# Altium footprint library STM32.PcbLib: 68 footprints (part 2 of 5)
Each footprint in its own frame and in the unit in brackets; x right, y up, seen from the top. Pads: shape width x height; smd on the part's side, far side on the other; paste and mask are expansions set on the pad; w line width, h text height; cw(c..) or ccw(c..) is an arc to the next point about the centre after c.
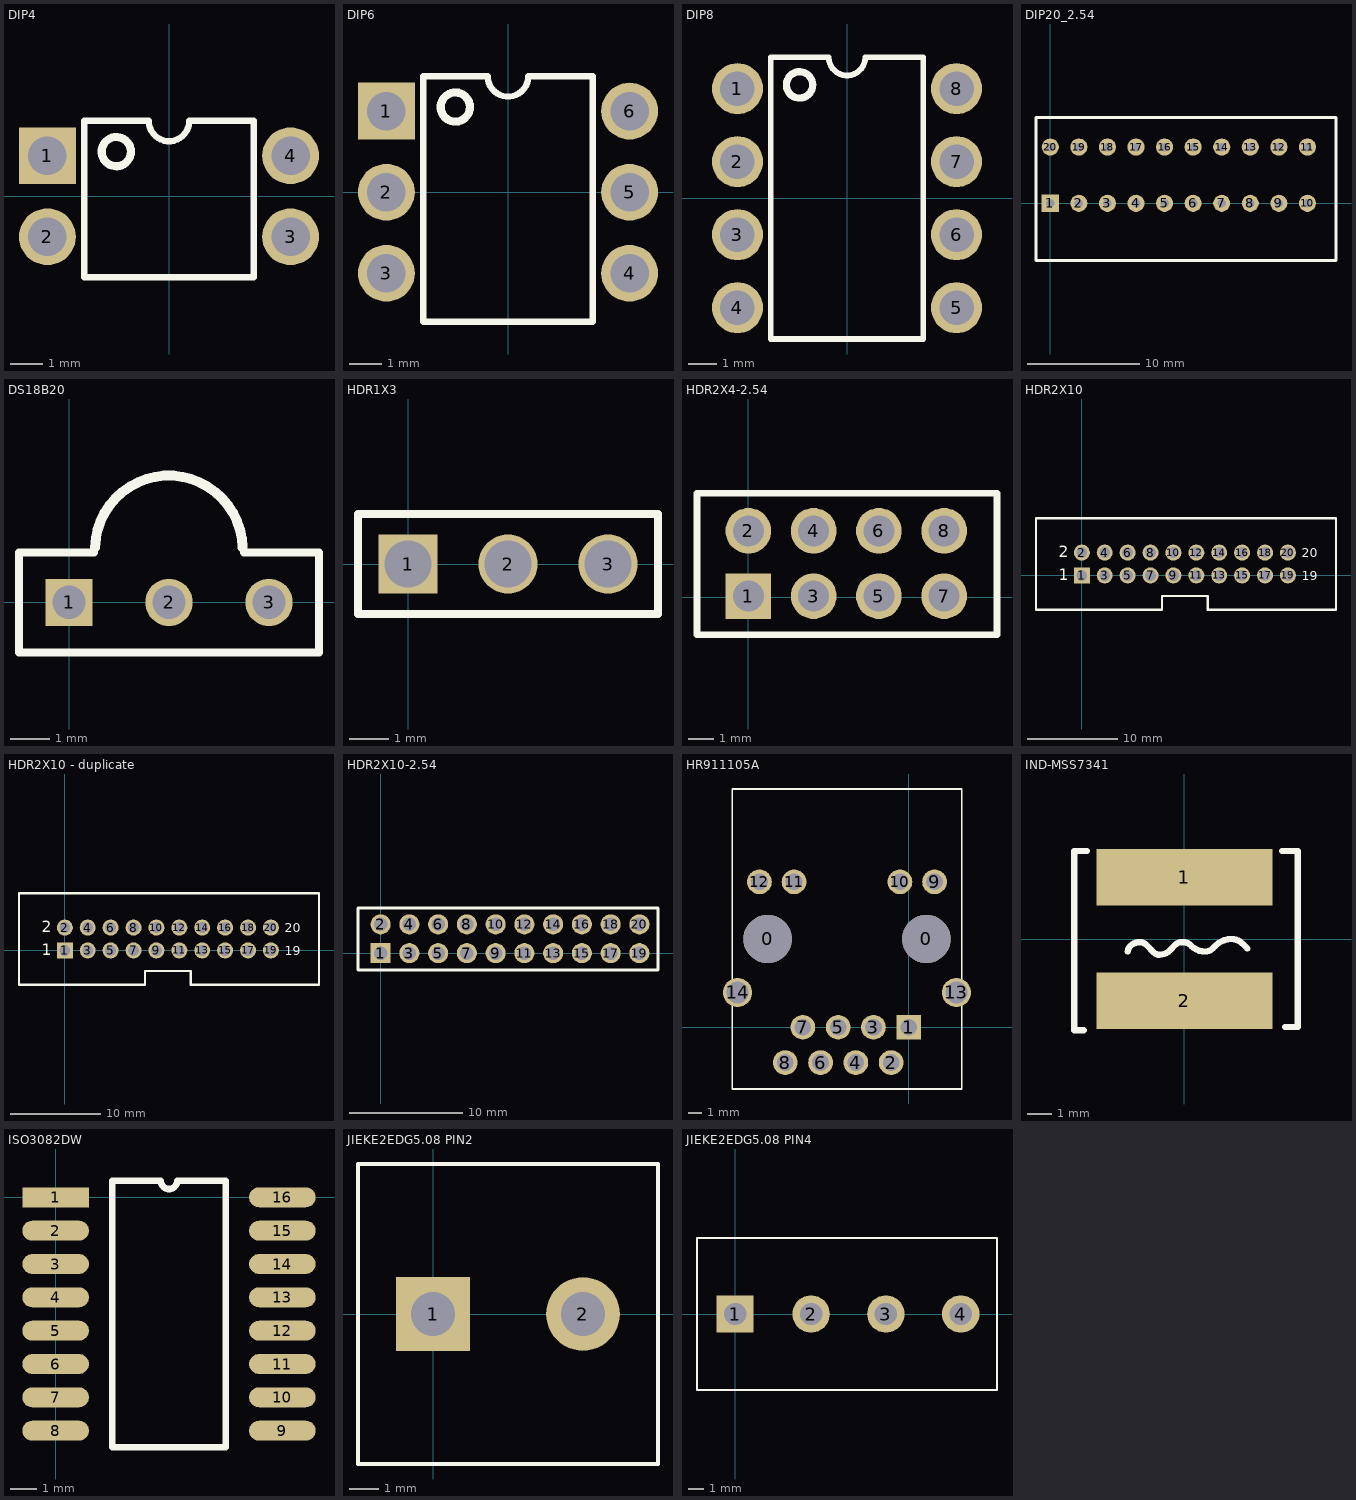
[diagram p1: the footprints below, top view; thin cyan lines are the x and y axes]

## DIP4 [mil] "DIP, 8-Leads, Row Spacing 7.62mm, Pi"
height 177.17
pads (4):
  rect 70x70 hole 47.24: 1(-150,50)
  round 70 hole 47.24: 2(-150,-50) 3(150,-50) 4(150,50)
Top Overlay:
  circle w10: c-65,55 r18.03
  lines w7.87: -104.33,-100 -104.33,92.91 -25,92.91 ccw(c0,92.91) 25,92.91 104.33,92.91 104.33,-100 -104.33,-100

## DIP6 [mil] "DIP, 8-Leads, Row Spacing 7.62mm, Pi"
height 177.17
pads (6):
  rect 70x70 hole 47.24: 1(-150,100)
  round 70 hole 47.24: 2(-150,0) 3(-150,-100) 4(150,-100) 5(150,0) 6(150,100)
Top Overlay:
  circle w10: c-65,105 r18.03
  lines w7.87: -104.33,-160 -104.33,142.91 -25,142.91 ccw(c0,142.91) 25,142.91 104.33,142.91 104.33,-160 -104.33,-160

## DIP8 [mil] "DIP, 8-Leads, Row Spacing 7.62mm, Pi"
height 177.17
pads (8):
  round 70 hole 47.24: 1(-150,150) 2(-150,50) 3(-150,-50) 4(-150,-150) 5(150,-150) 6(150,-50) 7(150,50) 8(150,150)
Top Overlay:
  circle w10: c-65,155 r18.03
  lines w7.87: -104.33,-192.91 -104.33,192.91 -25,192.91 ccw(c0,192.91) 25,192.91 104.33,192.91 104.33,-192.91 -104.33,-192.91

## DIP20 [mm]

## DIP20_2.54 [mil]
pads (20):
  rect 60x60 hole 30: 1(0,0)
  round 60 hole 30: 2(100,0) 3(200,0) 4(300,0) 5(400,0) 6(500,0) 7(600,0) 8(700,0) 9(800,0) 10(900,0) 11(900,196.85) 12(800,196.85) 13(700,196.85) 14(600,196.85) 15(500,196.85) 16(400,196.85) 17(300,196.85) 18(200,196.85) 19(100,196.85) 20(0,196.85)
Top Overlay:
  lines w10: -50,-200 -50,300 1000,300 1000,-200 -50,-200

## DS18B20 [mm] "Connector; Header; 3 Position"
pads (3):
  rect 1.2x1.2 hole 0.85: 1(0,0)
  round 1.2 hole 0.85: 2(2.54,0) 3(5.08,0)
Top Overlay:
  lines w0.2: 0.635,1.27 -1.27,1.27 -1.27,-1.27 4.42,-1.27 ; 4.445,-1.27 6.35,-1.27 6.35,1.27 4.445,1.27
  lines w0.254: 0.66,1.397 cw(c2.535,1.348) 4.409,1.398

## HDR1X3 [mm] "Connector; Header; 3 Position"
pads (3):
  rect 1.5x1.5 hole 1.2: 1(0,0)
  round 1.5 hole 1.2: 2(2.54,0) 3(5.08,0)
Top Overlay:
  lines w0.2: -1.27,-1.27 -1.27,1.27 6.35,1.27 6.35,-1.27 -1.27,-1.27

## HDR2X4-2.54 [mil]
pads (8):
  rect 70x70 hole 47.24: 1(0,2)
  round 70 hole 47.24: 2(0,102) 3(100,2) 4(100,102) 5(200,2) 6(200,102) 7(300,2) 8(300,102)
Top Overlay:
  lines w10: -78.74,-57.06 381,-57.06 381,159.48 374.02,159.48 -78.74,159.48 -78.74,21.68 -78.74,-57.06

## HDR2X10 [mil] "Connector; Header; 10x2 Position"
pads (20):
  rect 70x70 hole 47.24: 1(0,0)
  round 70 hole 47.24: 2(0,100) 3(100,0) 4(100,100) 5(200,0) 6(200,100) 7(300,0) 8(300,100) 9(400,0) 10(400,100) 11(500,0) 12(500,100) 13(600,0) 14(600,100) 15(700,0) 16(700,100) 17(800,0) 18(800,100) 19(900,0) 20(900,100)
Top Overlay:
  lines w10: -200,-150 -200,250 1110,250 1110,-150 780,-150 550,-150 550,-90 350,-90 350,-150 -200,-150
  text "20" at 960,80 h40
  text "19" at 960,-20 h40
  text "1" at -100,-20 h50
  text "2" at -100,80 h50

## HDR2X10 - duplicate [mil] "Connector; Header; 10x2 Position"
pads (20):
  rect 70x70 hole 47.24: 1(0,0)
  round 70 hole 47.24: 2(0,100) 3(100,0) 4(100,100) 5(200,0) 6(200,100) 7(300,0) 8(300,100) 9(400,0) 10(400,100) 11(500,0) 12(500,100) 13(600,0) 14(600,100) 15(700,0) 16(700,100) 17(800,0) 18(800,100) 19(900,0) 20(900,100)
Top Overlay:
  lines w10: -200,-150 -200,250 1110,250 1110,-150 780,-150 550,-150 550,-90 350,-90 350,-150 -200,-150
  text "20" at 960,80 h40
  text "19" at 960,-20 h40
  text "1" at -100,-20 h50
  text "2" at -100,80 h50

## HDR2X10-2.54 [mil] "Connector; Header; 10x2 Position"
pads (20):
  rect 70x70 hole 47.24: 1(0,0)
  round 70 hole 47.24: 2(0,100) 3(100,0) 4(100,100) 5(200,0) 6(200,100) 7(300,0) 8(300,100) 9(400,0) 10(400,100) 11(500,0) 12(500,100) 13(600,0) 14(600,100) 15(700,0) 16(700,100) 17(800,0) 18(800,100) 19(900,0) 20(900,100)
Top Overlay:
  lines w10: -78.74,-59.06 -78.74,19.68 -78.74,157.48 374.02,157.48 964.57,157.48 964.57,-59.06 -78.74,-59.06

## HR911105A [mil]
pads (16):
  round 137 hole 137 unplated: 0(-400,250) 0(50,250)
  rect 70x70 hole 47.24: 1(0,0)
  round 70 hole 47.24: 2(-50,-100) 3(-100,0) 4(-150,-100) 5(-200,0) 6(-250,-100) 7(-300,0) 8(-350,-100) 9(73.03,411.81) 10(-25,411.81) 11(-325,411.81) 12(-423.03,411.81)
  round 82.68 hole 63: 13(135,98.43) 14(-485,98.43)
Top Overlay:
  lines w5: -500,-175 -500,675 150,675 150,-175 -500,-175

## IND-MSS7341 [mil]
pads (2):
  rect 280x90 smd: 1(0,98.43) 2(0,-98.43)
Top Overlay:
  lines w10: -160,-145 -175,-145 -175,140 -155,140 ; -90,-20 cw(c-77.93,-20) -86.46,-11.46 cw(c-70.86,-27.07) -70.86,-5 cw(c-70.86,-19.14) -60.86,-9.14 -48.54,-21.46 ccw(c-40,-12.93) -40,-25 ccw(c-40,-0.86) -22.93,-17.93 -13.54,-8.54 cw(c-5,-17.07) -5,-5 -2.07,-5 cw(c-2.07,-22.07) 10,-10 10.86,-10.86 ccw(c32.93,11.21) 32.93,-20 ccw(c32.93,-2.93) 45,-15 49.39,-10.61 cw(c75,-36.21) 75,0 cw(c75,-24.14) 92.07,-7.07 100,-15 ; 155,140 180,140 180,-140 160,-140

## ISO3082DW [mil]
height 86.61
pads (16):
  rect 100x30 smd: 1(0,0)
  oval 100x30 smd: 2(0,-50) 3(0,-100) 4(0,-150) 5(0,-200) 6(0,-250) 7(0,-300) 8(0,-350) 9(340,-350) 10(340,-300) 11(340,-250) 12(340,-200) 13(340,-150) 14(340,-100) 15(340,-50) 16(340,0)
Top Overlay:
  lines w10: 85,-375 85,25 157.5,25 ccw(c170,25) 182.5,25 255,25 255,-375 85,-375

## JIEKE2EDG5.08 PIN2 [mm] "JIEKE2EDG5.08"
pads (2):
  rect 2.5x2.5 hole 1.5: 1(0,0)
  round 2.5 hole 1.5: 2(5.08,0)
Top Overlay:
  lines w0.127: -2.54,-5.08 -2.54,5.08 7.62,5.08 7.62,-5.08 -2.54,-5.08

## JIEKE2EDG5.08 PIN4 [mm] "JIEKE2EDG5.08"
pads (4):
  rect 2.5x2.5 hole 1.5: 1(0,0)
  round 2.5 hole 1.5: 2(5.08,0) 3(10.08,0) 4(15.08,0)
Top Overlay:
  lines w0.127: -2.54,-5.08 17.5,-5.08 17.5,5.08 -2.54,5.08 -2.54,-5.08